# Altium schematic symbol library Schlib1.SchLib: 6 symbols
Pins are listed as number, name and electrical type; pins without a type are passive.

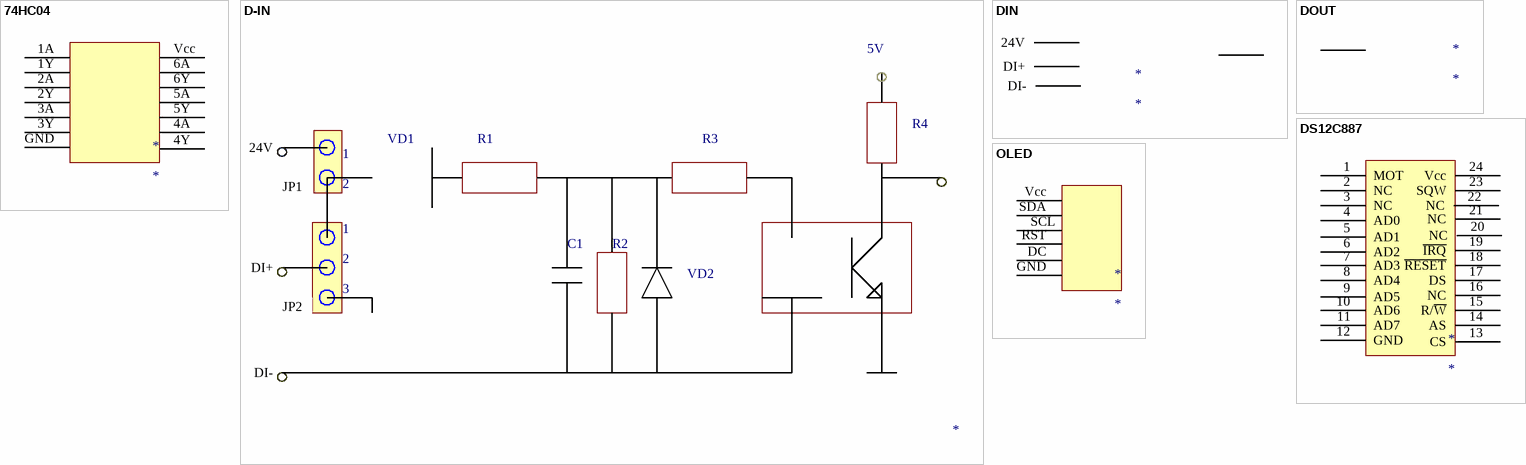
[diagram p0: symbols 74HC04 to OLED]

## 74HC04
designator *
pins: 1A 1, 1Y 2, 2A 3, 2Y 4, 3A 5, 3Y 6, 4A 9, 4Y 8, 5A 11, 5Y 10, 6A 13, 6Y 12, GND 7, Vcc 14

## D-IN
designator *
pins: 24V, 60 DI+, 61 DI-
text: 5V; R4; VD1; R1; R3; 1; JP1; 2; C1; R2; VD2; 3; JP2

## DIN
designator *
pins: 62 24V, 63 DI+, 64 DI-, 65

## DOUT
designator *
pins: 66

## DS12C887
designator *
pins: 1 MOT, 2 NC, 3 NC, 4 AD0, 5 AD1, 6 AD2, 7 AD3, 8 AD4, 9 AD5, 10 AD6, 11 AD7, 12 GND, 13 CS, 14 AS, 15 R/~{W}, 16 NC, 17 DS, 18 ~{RESET}, 19 ~{IRQ}, 20 NC, 21 NC, 22 NC, 23 SQW, 24 Vcc

## OLED
designator *
pins: DC 5, GND 6, RST 4, SCL 3, SDA 2, Vcc 1